# EAGLE library part SLG46118V (library GREENPAK)
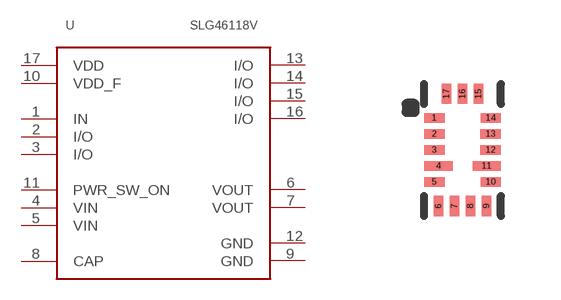
[diagram p46: symbol with the pads of STQFN-17-1.6X3.0-A; footprint STQFN-17-1.6X3.0-A]

Designator prefix -

## SLG46118V  [STQFN-17-1.6X3.0-A]
1  IN  in
2  I/O
3  I/O
4  VIN  pwr
5  VIN  pwr
6  VOUT
7  VOUT
8  CAP
9  GND
10  VDD_F  pwr
11  PWR_SW_ON
12  GND  pwr
13  I/O
14  I/O
15  I/O
16  I/O
17  VDD  pwr

## Footprint STQFN-17-1.6X3.0-A (pad centres in mm)
smd 0.51 x 0.23: 1 -0.705,0.8; 2 -0.705,0.4; 3 -0.705,0; 5 -0.705,-0.8; 10 0.705,-0.8; 12 0.705,0; 13 0.705,0.4; 14 0.705,0.8
smd 0.71 x 0.23: 4 -0.605,-0.4; 11 0.605,-0.4
smd 0.23 x 0.51: 6 -0.6,-1.405; 7 -0.2,-1.405; 8 0.2,-1.405; 9 0.6,-1.405; 15 0.4,1.405; 16 0,1.405; 17 -0.4,1.405